# Altium schematic symbol library kmilo17pet-TI_MSP430.SchLib: 1463 symbols (part 19 of 130)
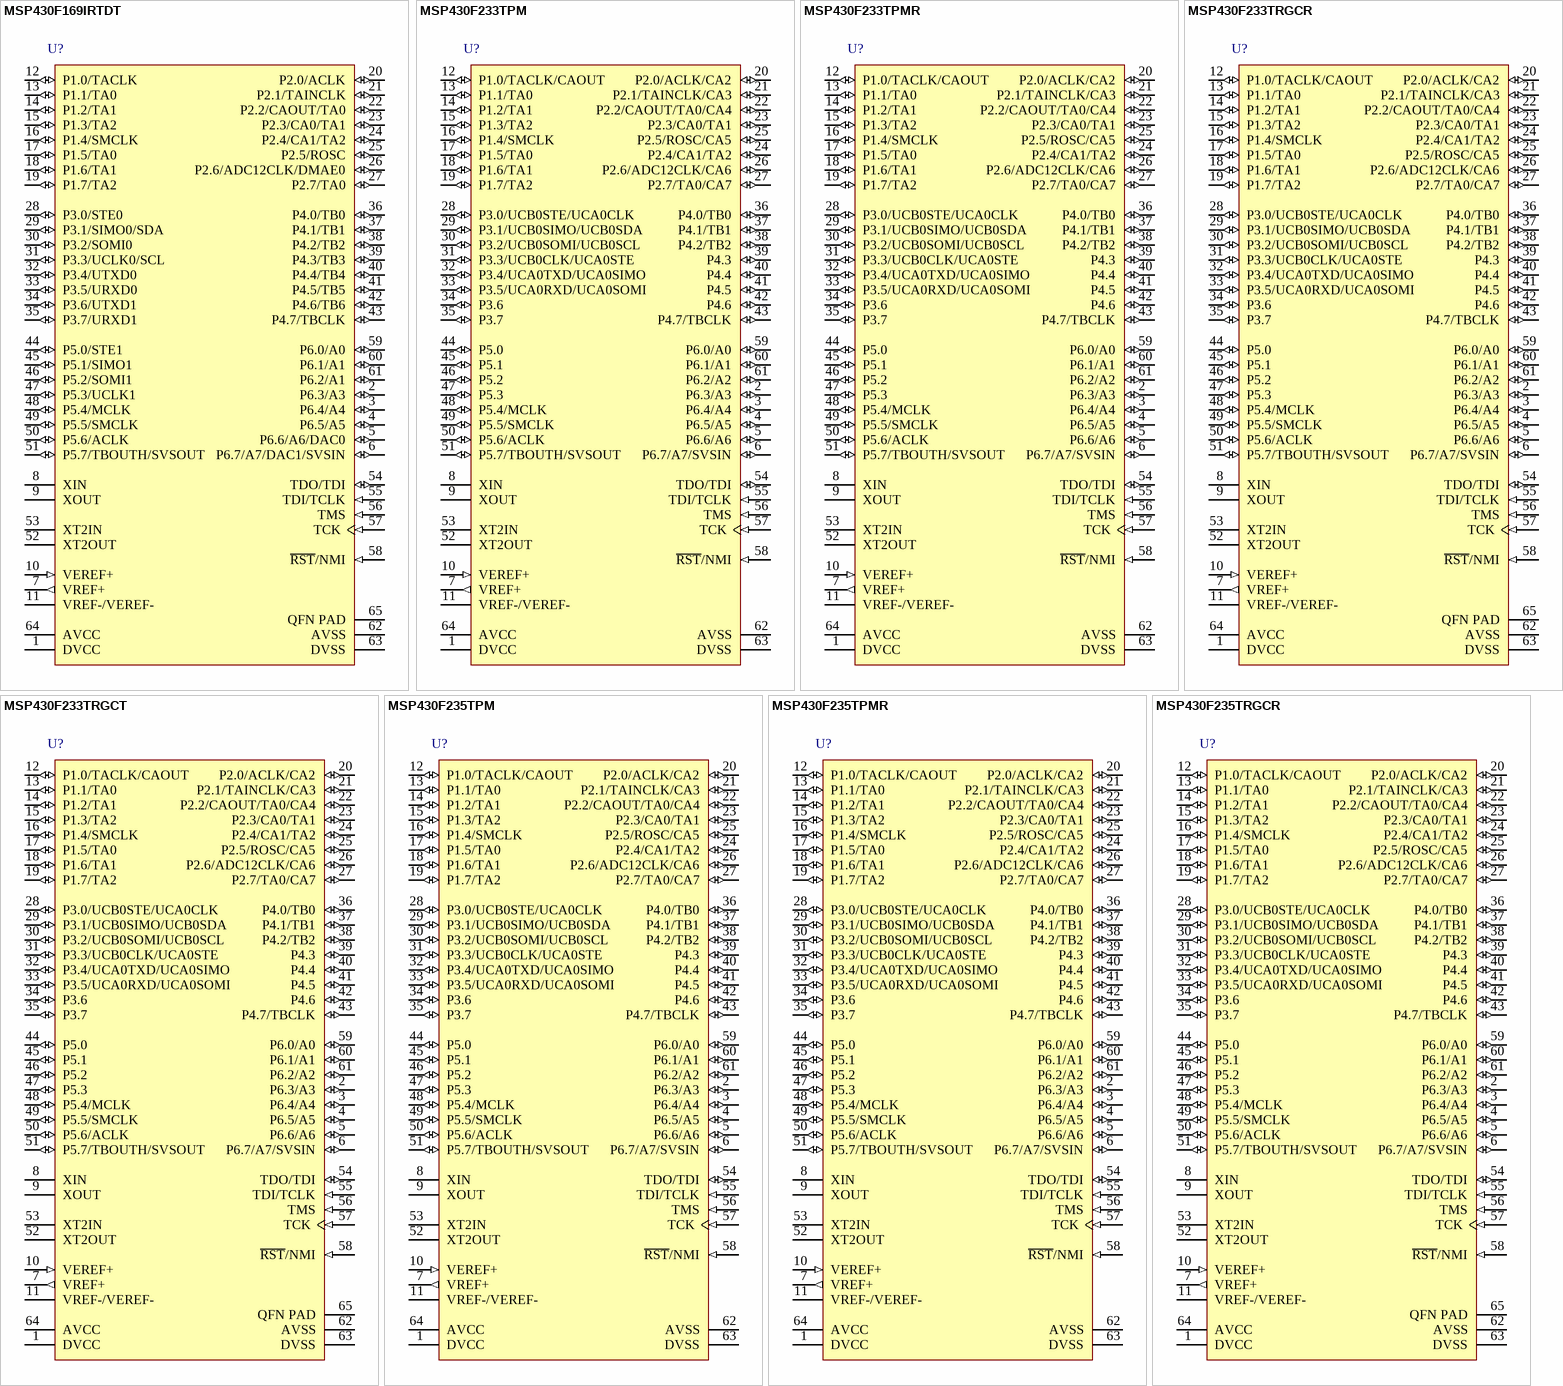
[diagram p246: symbols MSP430F169IRTDT to MSP430F235TRGCR]

## MSP430F235TPMR
designator U?
16 MHz Mixed Signal Microcontroller with 16 KB Flash, 2048 B SRAM and 48 GPIOs, -40 to 105 degC, 64-pin QFP (PM), Green (RoHS & no Sb/Br); Manufacturer: Texas Instruments; PartNumber: MSP430F235TPMR; ADC: 12-bit SAR; ADC Channels: 8; Brown Out Reset: Yes; Flash(KB): 16; GPIO: 48; Multiplier: 16x16; SRAM(B): 2048; SubFamily: 2 Series, Extended Temp; Timers - 16-bit: 2; USCI_A (UART/LIN/IrDA/SPI): 1; DatasheetVersion: SLAS547H; PackageVersion: 4040152/C; PackageReference: PM64; PackageDescription: 64-Pin Plastic Quad Flat Pack, Body 10 x 10 mm, Pitch 0.5 mm; Supplier 1: Digi-Key; Supplier Part Number 1: 296-26213-ND; Supplier 2: Farnell; Supplier Part Number 2: 1649432; Supplier 3: Newark; Supplier Part Number 3: 65M1698; Supplier 4: Mouser; Supplier Part Number 4: 595-MSP430F235TPM; Comparators: Yes; Eco-Plan: Green (RoHS & no Sb/Br); Frequency(MHz): 16; SVS: Yes; Temp Sensor: Yes; USCI_B (I2C & SPI): 1; Watchdog: Yes; Mounting Technology: Surface Mount; Code_JEDEC: MS-026; ComponentLink1Description: Manufacturer URL; ComponentLink1URL: http://www.ti.com/; ComponentLink2Description: Datasheet; ComponentLink2URL: http://www.ti.com/general/docs/lit/getliterature.tsp?genericPartNumber=MSP430F235&fileType=pdf; ComponentLink3Description: Package Specification; ComponentLink3URL: http://www.ti.com/lit/ml/mtqf008a/mtqf008a.pdf
footprint TI-PM64_N (QFP, 64-Leads, Body 10x10mm, Pitch 0.5mm, IPC Medium Density)
pins: 1 DVCC (power) "Digital supply voltage, positive terminal. Supplies all digital parts.", 2 P6.3/A3 (io), 3 P6.4/A4 (io), 4 P6.5/A5 (io), 5 P6.6/A6 (io), 6 P6.7/A7/SVSIN (io), 7 VREF+ (out) "Output of positive terminal of the reference voltage in the ADC12", 8 XIN "Input port for crystal oscillator XT1. Standard or watch crystals can be connected.", 9 XOUT "Output for crystal oscillator XT1. Standard or watch crystals can be connected", 10 VEREF+ (in) "Input for an external reference voltage", 11 VREF-/VEREF-, 12 P1.0/TACLK/CAOUT (io), 13 P1.1/TA0 (io), 14 P1.2/TA1 (io), 15 P1.3/TA2 (io), 16 P1.4/SMCLK (io), 17 P1.5/TA0 (io), 18 P1.6/TA1 (io), 19 P1.7/TA2 (io), 20 P2.0/ACLK/CA2 (io), 21 P2.1/TAINCLK/CA3 (io), 22 P2.2/CAOUT/TA0/CA4 (io), 23 P2.3/CA0/TA1 (io), 24 P2.4/CA1/TA2 (io), 25 P2.5/ROSC/CA5 (io), 26 P2.6/ADC12CLK/CA6 (io), 27 P2.7/TA0/CA7 (io), 28 P3.0/UCB0STE/UCA0CLK (io), 29 P3.1/UCB0SIMO/UCB0SDA (io), 30 P3.2/UCB0SOMI/UCB0SCL (io), 31 P3.3/UCB0CLK/UCA0STE (io), 32 P3.4/UCA0TXD/UCA0SIMO (io), 33 P3.5/UCA0RXD/UCA0SOMI (io), 34 P3.6 (io) "General-purpose digital I/O", 35 P3.7 (io) "General-purpose digital I/O", 36 P4.0/TB0 (io), 37 P4.1/TB1 (io), 38 P4.2/TB2 (io), 39 P4.3 (io) "General-purpose digital I/O", 40 P4.4 (io) "General-purpose digital I/O", 41 P4.5 (io) "General-purpose digital I/O", 42 P4.6 (io) "General-purpose digital I/O", 43 P4.7/TBCLK (io), 44 P5.0 (io) "General-purpose digital I/O", 45 P5.1 (io) "General-purpose digital I/O", 46 P5.2 (io) "General-purpose digital I/O", 47 P5.3 (io) "General-purpose digital I/O", 48 P5.4/MCLK (io), 49 P5.5/SMCLK (io), 50 P5.6/ACLK (io), 51 P5.7/TBOUTH/SVSOUT (io), 52 XT2OUT "Output terminal of crystal oscillator XT2", 53 XT2IN "Input port for crystal oscillator XT2", 54 TDO/TDI (io), 55 TDI/TCLK (in), 56 TMS (in) "Test mode select. TMS is used as an input port for device programming and test.", 57 TCK (in) "Test clock (JTAG). TCK is the clock input port for device programming test and bootstrap loader start.", 58 ~{RST}/NMI (in), 59 P6.0/A0 (io), 60 P6.1/A1 (io), 61 P6.2/A2 (io), 62 AVSS (power) "Analog supply voltage, negative terminal. Supplies only the analog portion of ADC12 and DAC12.", 63 DVSS (power) "Digital supply voltage, negative terminal. Supplies all digital parts.", 64 AVCC (power) "Analog supply voltage, positive terminal. Supplies only the analog portion of ADC12 and DAC12."

## MSP430F235TRGCR
designator U?
16 MHz Mixed Signal Microcontroller with 16 KB Flash, 2048 B SRAM and 48 GPIOs, -40 to 105 degC, 64-pin QFN (RGC), Green (RoHS & no Sb/Br); Manufacturer: Texas Instruments; PartNumber: MSP430F235TRGCR; ADC: 12-bit SAR; ADC Channels: 8; Brown Out Reset: Yes; Flash(KB): 16; GPIO: 48; Multiplier: 16x16; SRAM(B): 2048; SubFamily: 2 Series, Extended Temp; Timers - 16-bit: 2; USCI_A (UART/LIN/IrDA/SPI): 1; DatasheetVersion: SLAS547H; PackageVersion: 4204106/F; PackageReference: RGC64; PackageDescription: 64-Pin Plastic Flat Pack, Body 9 x 9 mm, Pitch 0.5 mm; Supplier 1: Digi-Key; Supplier Part Number 1: 296-22879-2-ND; Supplier 2: Digi-Key; Supplier Part Number 2: 296-22879-1-ND; Supplier 3: Digi-Key; Supplier Part Number 3: 296-22879-6-ND; Supplier 4: Farnell; Supplier Part Number 4: 1846603; Supplier 5: Newark; Supplier Part Number 5: 65M1699; Supplier 6: Mouser; Supplier Part Number 6: 595-MSP430F235TPMR; Comparators: Yes; Eco-Plan: Green (RoHS & no Sb/Br); Frequency(MHz): 16; SVS: Yes; Temp Sensor: Yes; USCI_B (I2C & SPI): 1; Watchdog: Yes; Mounting Technology: Surface Mount; ComponentLink1Description: Manufacturer URL; ComponentLink1URL: http://www.ti.com/; ComponentLink2Description: Datasheet; ComponentLink2URL: http://www.ti.com/general/docs/lit/getliterature.tsp?genericPartNumber=MSP430F235&fileType=pdf; ComponentLink3Description: Package Specification; ComponentLink3URL: http://www.ti.com/lit/ds/symlink/ucd3138.pdf
footprint TI-RGC64-4250X4250TP_N (QFN, 64-Leads, Body 9x9mm, Pitch 0.5mm, Thermal Pad 4.25x4.25mm, IPC Medium Density)
pins: 1 DVCC (power) "Digital supply voltage, positive. Supplies all digital parts.", 2 P6.3/A3 (io), 3 P6.4/A4 (io), 4 P6.5/A5 (io), 5 P6.6/A6 (io), 6 P6.7/A7/SVSIN (io), 7 VREF+ (out) "Output of positive terminal of the reference voltage in the ADC12", 8 XIN "Input port for crystal oscillator XT1. Standard or watch crystals can be connected.", 9 XOUT "Output for crystal oscillator XT1. Standard or watch crystals can be connected.", 10 VEREF+ (in) "Input for an external reference voltage", 11 VREF-/VEREF-, 12 P1.0/TACLK/CAOUT (io), 13 P1.1/TA0 (io), 14 P1.2/TA1 (io), 15 P1.3/TA2 (io), 16 P1.4/SMCLK (io), 17 P1.5/TA0 (io), 18 P1.6/TA1 (io), 19 P1.7/TA2 (io), 20 P2.0/ACLK/CA2 (io), 21 P2.1/TAINCLK/CA3 (io), 22 P2.2/CAOUT/TA0/CA4 (io), 23 P2.3/CA0/TA1 (io), 24 P2.4/CA1/TA2 (io), 25 P2.5/ROSC/CA5 (io), 26 P2.6/ADC12CLK/CA6 (io), 27 P2.7/TA0/CA7 (io), 28 P3.0/UCB0STE/UCA0CLK (io), 29 P3.1/UCB0SIMO/UCB0SDA (io), 30 P3.2/UCB0SOMI/UCB0SCL (io), 31 P3.3/UCB0CLK/UCA0STE (io), 32 P3.4/UCA0TXD/UCA0SIMO (io), 33 P3.5/UCA0RXD/UCA0SOMI (io), 34 P3.6 (io) "General-purpose digital I/O", 35 P3.7 (io) "General-purpose digital I/O", 36 P4.0/TB0 (io), 37 P4.1/TB1 (io), 38 P4.2/TB2 (io), 39 P4.3 (io) "General-purpose digital I/O", 40 P4.4 (io) "General-purpose digital I/O", 41 P4.5 (io) "General-purpose digital I/O", 42 P4.6 (io) "General-purpose digital I/O", 43 P4.7/TBCLK (io), 44 P5.0 (io) "General-purpose digital I/O", 45 P5.1 (io) "General-purpose digital I/O", 46 P5.2 (io) "General-purpose digital I/O", 47 P5.3 (io) "General-purpose digital I/O", 48 P5.4/MCLK (io), 49 P5.5/SMCLK (io), 50 P5.6/ACLK (io), 51 P5.7/TBOUTH/SVSOUT (io), 52 XT2OUT "Output terminal of crystal oscillator XT2", 53 XT2IN "Input port for crystal oscillator XT2", 54 TDO/TDI (io), 55 TDI/TCLK (in), 56 TMS (in) "Test mode select. TMS is used as an input port for device programming and test.", 57 TCK (in) "Test clock (JTAG). TCK is the clock input port for device programming test and bootstrap loader start.", 58 ~{RST}/NMI (in), 59 P6.0/A0 (io), 60 P6.1/A1 (io), 61 P6.2/A2 (io), 62 AVSS (power) "Analog supply voltage, negative. Supplies only the analog portion of ADC12.", 63 DVSS (power) "Digital supply voltage, negative. Supplies all digital parts.", 64 AVCC (power) "Analog supply voltage, positive. Supplies only the analog portion of ADC12.", 65 QFN PAD (power) "QFN package pad connection to DVSS recommended"

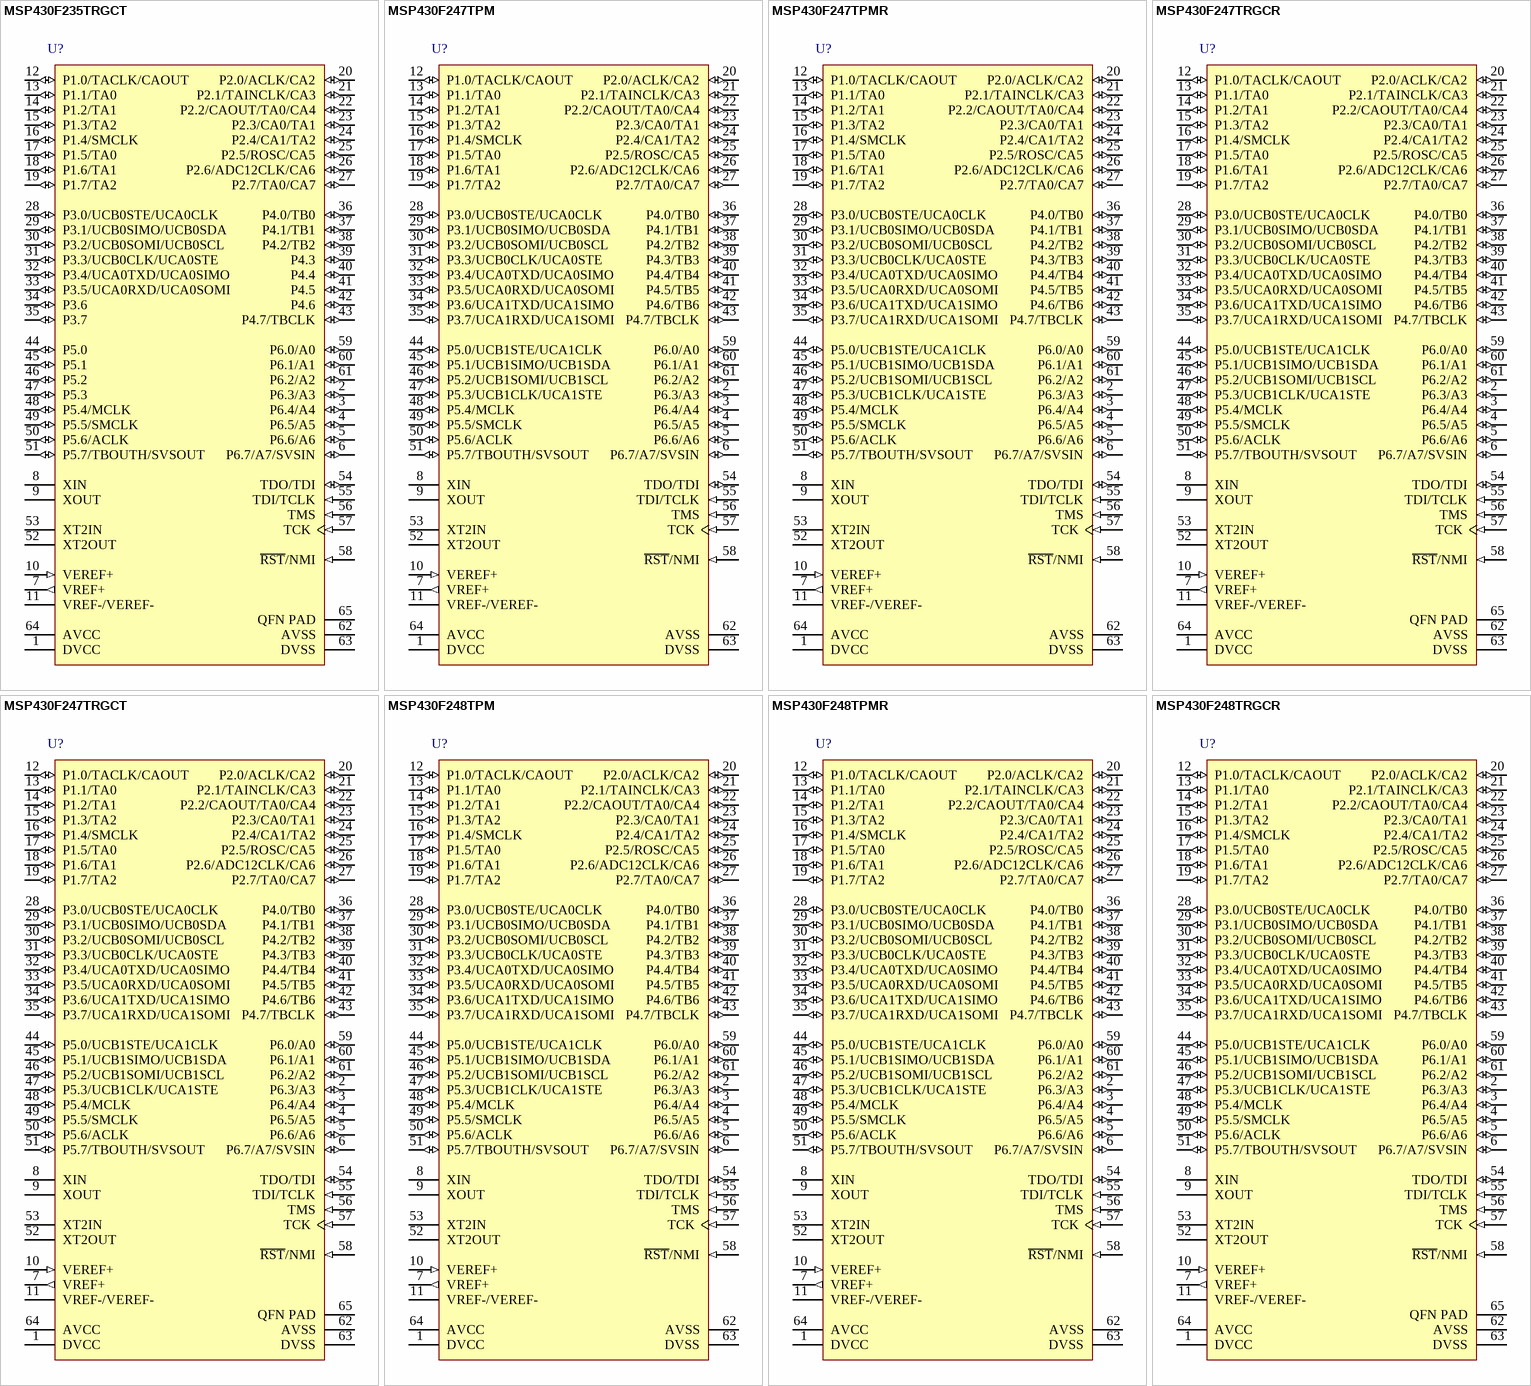
[diagram p29: symbols MSP430F235TRGCT to MSP430F248TRGCR]

## MSP430F235TRGCT
designator U?
16 MHz Mixed Signal Microcontroller with 16 KB Flash, 2048 B SRAM and 48 GPIOs, -40 to 105 degC, 64-pin QFN (RGC), Green (RoHS & no Sb/Br); Manufacturer: Texas Instruments; PartNumber: MSP430F235TRGCT; ADC: 12-bit SAR; ADC Channels: 8; Brown Out Reset: Yes; Flash(KB): 16; GPIO: 48; Multiplier: 16x16; SRAM(B): 2048; SubFamily: 2 Series, Extended Temp; Timers - 16-bit: 2; USCI_A (UART/LIN/IrDA/SPI): 1; DatasheetVersion: SLAS547H; PackageVersion: 4204106/F; PackageReference: RGC64; PackageDescription: 64-Pin Plastic Flat Pack, Body 9 x 9 mm, Pitch 0.5 mm; Supplier 1: Digi-Key; Supplier Part Number 1: 296-22928-2-ND; Supplier 2: Digi-Key; Supplier Part Number 2: 296-22928-1-ND; Supplier 3: Digi-Key; Supplier Part Number 3: 296-22928-6-ND; Supplier 4: Farnell; Supplier Part Number 4: 1903431; Supplier 5: Newark; Supplier Part Number 5: 84M9633; Supplier 6: Mouser; Supplier Part Number 6: 595-MSP430F235TRGCR; Comparators: Yes; Eco-Plan: Green (RoHS & no Sb/Br); Frequency(MHz): 16; SVS: Yes; Temp Sensor: Yes; USCI_B (I2C & SPI): 1; Watchdog: Yes; Mounting Technology: Surface Mount; ComponentLink1Description: Manufacturer URL; ComponentLink1URL: http://www.ti.com/; ComponentLink2Description: Datasheet; ComponentLink2URL: http://www.ti.com/general/docs/lit/getliterature.tsp?genericPartNumber=MSP430F235&fileType=pdf; ComponentLink3Description: Package Specification; ComponentLink3URL: http://www.ti.com/lit/ds/symlink/ucd3138.pdf
footprint TI-RGC64-4250X4250TP_N (QFN, 64-Leads, Body 9x9mm, Pitch 0.5mm, Thermal Pad 4.25x4.25mm, IPC Medium Density)
pins: 1 DVCC (power) "Digital supply voltage, positive. Supplies all digital parts.", 2 P6.3/A3 (io), 3 P6.4/A4 (io), 4 P6.5/A5 (io), 5 P6.6/A6 (io), 6 P6.7/A7/SVSIN (io), 7 VREF+ (out) "Output of positive terminal of the reference voltage in the ADC12", 8 XIN "Input port for crystal oscillator XT1. Standard or watch crystals can be connected.", 9 XOUT "Output for crystal oscillator XT1. Standard or watch crystals can be connected.", 10 VEREF+ (in) "Input for an external reference voltage", 11 VREF-/VEREF-, 12 P1.0/TACLK/CAOUT (io), 13 P1.1/TA0 (io), 14 P1.2/TA1 (io), 15 P1.3/TA2 (io), 16 P1.4/SMCLK (io), 17 P1.5/TA0 (io), 18 P1.6/TA1 (io), 19 P1.7/TA2 (io), 20 P2.0/ACLK/CA2 (io), 21 P2.1/TAINCLK/CA3 (io), 22 P2.2/CAOUT/TA0/CA4 (io), 23 P2.3/CA0/TA1 (io), 24 P2.4/CA1/TA2 (io), 25 P2.5/ROSC/CA5 (io), 26 P2.6/ADC12CLK/CA6 (io), 27 P2.7/TA0/CA7 (io), 28 P3.0/UCB0STE/UCA0CLK (io), 29 P3.1/UCB0SIMO/UCB0SDA (io), 30 P3.2/UCB0SOMI/UCB0SCL (io), 31 P3.3/UCB0CLK/UCA0STE (io), 32 P3.4/UCA0TXD/UCA0SIMO (io), 33 P3.5/UCA0RXD/UCA0SOMI (io), 34 P3.6 (io) "General-purpose digital I/O", 35 P3.7 (io) "General-purpose digital I/O", 36 P4.0/TB0 (io), 37 P4.1/TB1 (io), 38 P4.2/TB2 (io), 39 P4.3 (io) "General-purpose digital I/O", 40 P4.4 (io) "General-purpose digital I/O", 41 P4.5 (io) "General-purpose digital I/O", 42 P4.6 (io) "General-purpose digital I/O", 43 P4.7/TBCLK (io), 44 P5.0 (io) "General-purpose digital I/O", 45 P5.1 (io) "General-purpose digital I/O", 46 P5.2 (io) "General-purpose digital I/O", 47 P5.3 (io) "General-purpose digital I/O", 48 P5.4/MCLK (io), 49 P5.5/SMCLK (io), 50 P5.6/ACLK (io), 51 P5.7/TBOUTH/SVSOUT (io), 52 XT2OUT "Output terminal of crystal oscillator XT2", 53 XT2IN "Input port for crystal oscillator XT2", 54 TDO/TDI (io), 55 TDI/TCLK (in), 56 TMS (in) "Test mode select. TMS is used as an input port for device programming and test.", 57 TCK (in) "Test clock (JTAG). TCK is the clock input port for device programming test and bootstrap loader start.", 58 ~{RST}/NMI (in), 59 P6.0/A0 (io), 60 P6.1/A1 (io), 61 P6.2/A2 (io), 62 AVSS (power) "Analog supply voltage, negative. Supplies only the analog portion of ADC12.", 63 DVSS (power) "Digital supply voltage, negative. Supplies all digital parts.", 64 AVCC (power) "Analog supply voltage, positive. Supplies only the analog portion of ADC12.", 65 QFN PAD (power) "QFN package pad connection to DVSS recommended"

## MSP430F247TPM
designator U?
16 MHz Mixed Signal Microcontroller with 32 KB Flash, 4096 B SRAM and 48 GPIOs, -40 to 105 degC, 64-pin QFP (PM), Green (RoHS & no Sb/Br); Manufacturer: Texas Instruments; PartNumber: MSP430F247TPM; ADC: 12-bit SAR; ADC Channels: 8; Brown Out Reset: Yes; Flash(KB): 32; Frequency(MHz): 16; GPIO: 48; Multiplier: 16x16; SRAM(B): 4096; SubFamily: 2 Series; Timers - 16-bit: 2; DatasheetVersion: SLAS547H; PackageVersion: 4040152/C; PackageReference: PM64; PackageDescription: 64-Pin Plastic Quad Flat Pack, Body 10 x 10 mm, Pitch 0.5 mm; Supplier 1: Digi-Key; Supplier Part Number 1: 296-31686-2-ND; Supplier 2: Digi-Key; Supplier Part Number 2: 296-31686-1-ND; Supplier 3: Digi-Key; Supplier Part Number 3: 296-31686-6-ND; Supplier 4: Mouser; Supplier Part Number 4: 595-MSP430F2471TRGCT; Comparators: Yes; Eco-Plan: Green (RoHS & no Sb/Br); SVS: Yes; Temp Sensor: Yes; USCI_A (UART/LIN/IrDA/SPI): 2; USCI_B (I2C & SPI): 2; Watchdog: Yes; Mounting Technology: Surface Mount; Code_JEDEC: MS-026; ComponentLink1Description: Manufacturer URL; ComponentLink1URL: http://www.ti.com/; ComponentLink2Description: Datasheet; ComponentLink2URL: http://www.ti.com/general/docs/lit/getliterature.tsp?genericPartNumber=MSP430F247&fileType=pdf; ComponentLink3Description: Package Specification; ComponentLink3URL: http://www.ti.com/lit/ml/mtqf008a/mtqf008a.pdf
footprint TI-PM64_N (QFP, 64-Leads, Body 10x10mm, Pitch 0.5mm, IPC Medium Density)
pins: 1 DVCC (power) "Digital supply voltage, positive terminal. Supplies all digital parts.", 2 P6.3/A3 (io), 3 P6.4/A4 (io), 4 P6.5/A5 (io), 5 P6.6/A6 (io), 6 P6.7/A7/SVSIN (io), 7 VREF+ (out) "Output of positive terminal of the reference voltage in the ADC12", 8 XIN "Input port for crystal oscillator XT1. Standard or watch crystals can be connected.", 9 XOUT "Output port for crystal oscillator XT1. Standard or watch crystals can be connected.", 10 VEREF+ (in) "Input for an external reference voltage", 11 VREF-/VEREF-, 12 P1.0/TACLK/CAOUT (io), 13 P1.1/TA0 (io), 14 P1.2/TA1 (io), 15 P1.3/TA2 (io), 16 P1.4/SMCLK (io), 17 P1.5/TA0 (io), 18 P1.6/TA1 (io), 19 P1.7/TA2 (io), 20 P2.0/ACLK/CA2 (io), 21 P2.1/TAINCLK/CA3 (io), 22 P2.2/CAOUT/TA0/CA4 (io), 23 P2.3/CA0/TA1 (io), 24 P2.4/CA1/TA2 (io), 25 P2.5/ROSC/CA5 (io), 26 P2.6/ADC12CLK/CA6 (io), 27 P2.7/TA0/CA7 (io), 28 P3.0/UCB0STE/UCA0CLK (io), 29 P3.1/UCB0SIMO/UCB0SDA (io), 30 P3.2/UCB0SOMI/UCB0SCL (io), 31 P3.3/UCB0CLK/UCA0STE (io), 32 P3.4/UCA0TXD/UCA0SIMO (io), 33 P3.5/UCA0RXD/UCA0SOMI (io), 34 P3.6/UCA1TXD/UCA1SIMO (io), 35 P3.7/UCA1RXD/UCA1SOMI (io), 36 P4.0/TB0 (io), 37 P4.1/TB1 (io), 38 P4.2/TB2 (io), 39 P4.3/TB3 (io), 40 P4.4/TB4 (io), 41 P4.5/TB5 (io), 42 P4.6/TB6 (io), 43 P4.7/TBCLK (io), 44 P5.0/UCB1STE/UCA1CLK (io), 45 P5.1/UCB1SIMO/UCB1SDA (io), 46 P5.2/UCB1SOMI/UCB1SCL (io), 47 P5.3/UCB1CLK/UCA1STE (io), 48 P5.4/MCLK (io), 49 P5.5/SMCLK (io), 50 P5.6/ACLK (io), 51 P5.7/TBOUTH/SVSOUT (io), 52 XT2OUT "Output terminal of crystal oscillator XT2", 53 XT2IN "Input port for crystal oscillator XT2", 54 TDO/TDI (io), 55 TDI/TCLK (in), 56 TMS (in) "Test mode select. TMS is used as an input port for device programming and test.", 57 TCK (in) "Test clock (JTAG). TCK is the clock input port for device programming test and bootstrap loader start", 58 ~{RST}/NMI (in), 59 P6.0/A0 (io), 60 P6.1/A1 (io), 61 P6.2/A2 (io), 62 AVSS (power) "Analog supply voltage, negative terminal. Supplies only the analog portion of ADC12 and DAC12.", 63 DVSS (power) "Digital supply voltage, negative terminal. Supplies all digital parts.", 64 AVCC (power) "Analog supply voltage, positive terminal. Supplies only the analog portion of ADC12 and DAC12."

## MSP430F247TPMR
designator U?
16 MHz Mixed Signal Microcontroller with 32 KB Flash, 4096 B SRAM and 48 GPIOs, -40 to 105 degC, 64-pin QFP (PM), Green (RoHS & no Sb/Br); Manufacturer: Texas Instruments; PartNumber: MSP430F247TPMR; ADC: 12-bit SAR; ADC Channels: 8; Brown Out Reset: Yes; Flash(KB): 32; Frequency(MHz): 16; GPIO: 48; Multiplier: 16x16; SRAM(B): 4096; SubFamily: 2 Series; Timers - 16-bit: 2; DatasheetVersion: SLAS547H; PackageVersion: 4040152/C; PackageReference: PM64; PackageDescription: 64-Pin Plastic Quad Flat Pack, Body 10 x 10 mm, Pitch 0.5 mm; Supplier 1: Digi-Key; Supplier Part Number 1: 296-26219-ND; Supplier 2: Farnell; Supplier Part Number 2: 1649443; Supplier 3: Newark; Supplier Part Number 3: 65M1705; Supplier 4: Mouser; Supplier Part Number 4: 595-MSP430F247TPM; Comparators: Yes; Eco-Plan: Green (RoHS & no Sb/Br); SVS: Yes; Temp Sensor: Yes; USCI_A (UART/LIN/IrDA/SPI): 2; USCI_B (I2C & SPI): 2; Watchdog: Yes; Mounting Technology: Surface Mount; Code_JEDEC: MS-026; ComponentLink1Description: Manufacturer URL; ComponentLink1URL: http://www.ti.com/; ComponentLink2Description: Datasheet; ComponentLink2URL: http://www.ti.com/general/docs/lit/getliterature.tsp?genericPartNumber=MSP430F247&fileType=pdf; ComponentLink3Description: Package Specification; ComponentLink3URL: http://www.ti.com/lit/ml/mtqf008a/mtqf008a.pdf
footprint TI-PM64_N (QFP, 64-Leads, Body 10x10mm, Pitch 0.5mm, IPC Medium Density)
pins: 1 DVCC (power) "Digital supply voltage, positive terminal. Supplies all digital parts.", 2 P6.3/A3 (io), 3 P6.4/A4 (io), 4 P6.5/A5 (io), 5 P6.6/A6 (io), 6 P6.7/A7/SVSIN (io), 7 VREF+ (out) "Output of positive terminal of the reference voltage in the ADC12", 8 XIN "Input port for crystal oscillator XT1. Standard or watch crystals can be connected.", 9 XOUT "Output port for crystal oscillator XT1. Standard or watch crystals can be connected.", 10 VEREF+ (in) "Input for an external reference voltage", 11 VREF-/VEREF-, 12 P1.0/TACLK/CAOUT (io), 13 P1.1/TA0 (io), 14 P1.2/TA1 (io), 15 P1.3/TA2 (io), 16 P1.4/SMCLK (io), 17 P1.5/TA0 (io), 18 P1.6/TA1 (io), 19 P1.7/TA2 (io), 20 P2.0/ACLK/CA2 (io), 21 P2.1/TAINCLK/CA3 (io), 22 P2.2/CAOUT/TA0/CA4 (io), 23 P2.3/CA0/TA1 (io), 24 P2.4/CA1/TA2 (io), 25 P2.5/ROSC/CA5 (io), 26 P2.6/ADC12CLK/CA6 (io), 27 P2.7/TA0/CA7 (io), 28 P3.0/UCB0STE/UCA0CLK (io), 29 P3.1/UCB0SIMO/UCB0SDA (io), 30 P3.2/UCB0SOMI/UCB0SCL (io), 31 P3.3/UCB0CLK/UCA0STE (io), 32 P3.4/UCA0TXD/UCA0SIMO (io), 33 P3.5/UCA0RXD/UCA0SOMI (io), 34 P3.6/UCA1TXD/UCA1SIMO (io), 35 P3.7/UCA1RXD/UCA1SOMI (io), 36 P4.0/TB0 (io), 37 P4.1/TB1 (io), 38 P4.2/TB2 (io), 39 P4.3/TB3 (io), 40 P4.4/TB4 (io), 41 P4.5/TB5 (io), 42 P4.6/TB6 (io), 43 P4.7/TBCLK (io), 44 P5.0/UCB1STE/UCA1CLK (io), 45 P5.1/UCB1SIMO/UCB1SDA (io), 46 P5.2/UCB1SOMI/UCB1SCL (io), 47 P5.3/UCB1CLK/UCA1STE (io), 48 P5.4/MCLK (io), 49 P5.5/SMCLK (io), 50 P5.6/ACLK (io), 51 P5.7/TBOUTH/SVSOUT (io), 52 XT2OUT "Output terminal of crystal oscillator XT2", 53 XT2IN "Input port for crystal oscillator XT2", 54 TDO/TDI (io), 55 TDI/TCLK (in), 56 TMS (in) "Test mode select. TMS is used as an input port for device programming and test.", 57 TCK (in) "Test clock (JTAG). TCK is the clock input port for device programming test and bootstrap loader start", 58 ~{RST}/NMI (in), 59 P6.0/A0 (io), 60 P6.1/A1 (io), 61 P6.2/A2 (io), 62 AVSS (power) "Analog supply voltage, negative terminal. Supplies only the analog portion of ADC12 and DAC12.", 63 DVSS (power) "Digital supply voltage, negative terminal. Supplies all digital parts.", 64 AVCC (power) "Analog supply voltage, positive terminal. Supplies only the analog portion of ADC12 and DAC12."

## MSP430F247TRGCR
designator U?
16 MHz Mixed Signal Microcontroller with 32 KB Flash, 4096 B SRAM and 48 GPIOs, -40 to 105 degC, 64-pin QFN (RGC), Green (RoHS & no Sb/Br); Manufacturer: Texas Instruments; PartNumber: MSP430F247TRGCR; ADC: 12-bit SAR; ADC Channels: 8; Brown Out Reset: Yes; Flash(KB): 32; Frequency(MHz): 16; GPIO: 48; Multiplier: 16x16; SRAM(B): 4096; SubFamily: 2 Series; Timers - 16-bit: 2; DatasheetVersion: SLAS547H; PackageVersion: 4204106/F; PackageReference: RGC64; PackageDescription: 64-Pin Plastic Flat Pack, Body 9 x 9 mm, Pitch 0.5 mm; Supplier 1: Digi-Key; Supplier Part Number 1: 296-22878-2-ND; Supplier 2: Digi-Key; Supplier Part Number 2: 296-22878-1-ND; Supplier 3: Digi-Key; Supplier Part Number 3: 296-22878-6-ND; Supplier 4: Newark; Supplier Part Number 4: 65M1706; Supplier 5: Mouser; Supplier Part Number 5: 595-MSP430F247TPMR; Comparators: Yes; Eco-Plan: Green (RoHS & no Sb/Br); SVS: Yes; Temp Sensor: Yes; USCI_A (UART/LIN/IrDA/SPI): 2; USCI_B (I2C & SPI): 2; Watchdog: Yes; Mounting Technology: Surface Mount; ComponentLink1Description: Manufacturer URL; ComponentLink1URL: http://www.ti.com/; ComponentLink2Description: Datasheet; ComponentLink2URL: http://www.ti.com/general/docs/lit/getliterature.tsp?genericPartNumber=MSP430F247&fileType=pdf; ComponentLink3Description: Package Specification; ComponentLink3URL: http://www.ti.com/lit/ds/symlink/ucd3138.pdf
footprint TI-RGC64-4250X4250TP_N (QFN, 64-Leads, Body 9x9mm, Pitch 0.5mm, Thermal Pad 4.25x4.25mm, IPC Medium Density)
pins: 1 DVCC (power) "Digital supply voltage, positive terminal. Supplies all digital parts.", 2 P6.3/A3 (io), 3 P6.4/A4 (io), 4 P6.5/A5 (io), 5 P6.6/A6 (io), 6 P6.7/A7/SVSIN (io), 7 VREF+ (out) "Positive output of the reference voltage in the ADC12", 8 XIN "Input for crystal oscillator XT1. Standard or watch crystals can be connected.", 9 XOUT "Output for crystal oscillator XT1. Standard or watch crystals can be connected.", 10 VEREF+ (in) "Input for an external reference voltage", 11 VREF-/VEREF-, 12 P1.0/TACLK/CAOUT (io), 13 P1.1/TA0 (io), 14 P1.2/TA1 (io), 15 P1.3/TA2 (io), 16 P1.4/SMCLK (io), 17 P1.5/TA0 (io), 18 P1.6/TA1 (io), 19 P1.7/TA2 (io), 20 P2.0/ACLK/CA2 (io), 21 P2.1/TAINCLK/CA3 (io), 22 P2.2/CAOUT/TA0/CA4 (io), 23 P2.3/CA0/TA1 (io), 24 P2.4/CA1/TA2 (io), 25 P2.5/ROSC/CA5 (io), 26 P2.6/ADC12CLK/CA6 (io), 27 P2.7/TA0/CA7 (io), 28 P3.0/UCB0STE/UCA0CLK (io), 29 P3.1/UCB0SIMO/UCB0SDA (io), 30 P3.2/UCB0SOMI/UCB0SCL (io), 31 P3.3/UCB0CLK/UCA0STE (io), 32 P3.4/UCA0TXD/UCA0SIMO (io), 33 P3.5/UCA0RXD/UCA0SOMI (io), 34 P3.6/UCA1TXD/UCA1SIMO (io), 35 P3.7/UCA1RXD/UCA1SOMI (io), 36 P4.0/TB0 (io), 37 P4.1/TB1 (io), 38 P4.2/TB2 (io), 39 P4.3/TB3 (io), 40 P4.4/TB4 (io), 41 P4.5/TB5 (io), 42 P4.6/TB6 (io), 43 P4.7/TBCLK (io), 44 P5.0/UCB1STE/UCA1CLK (io), 45 P5.1/UCB1SIMO/UCB1SDA (io), 46 P5.2/UCB1SOMI/UCB1SCL (io), 47 P5.3/UCB1CLK/UCA1STE (io), 48 P5.4/MCLK (io), 49 P5.5/SMCLK (io), 50 P5.6/ACLK (io), 51 P5.7/TBOUTH/SVSOUT (io), 52 XT2OUT "Output of crystal oscillator XT2", 53 XT2IN "Input for crystal oscillator XT2", 54 TDO/TDI (io), 55 TDI/TCLK (in), 56 TMS (in) "Test mode select. TMS is used as an input port for device programming and test.", 57 TCK (in) "Test clock (JTAG). TCK is the clock input port for device programming test and bootstrap loader start.", 58 ~{RST}/NMI (in), 59 P6.0/A0 (io), 60 P6.1/A1 (io), 61 P6.2/A2 (io), 62 AVSS (power) "Analog supply voltage, negative terminal. Supplies only the analog portion of ADC12.", 63 DVSS (power) "Digital supply voltage, negative terminal. Supplies all digital parts.", 64 AVCC (power) "Analog supply voltage, positive terminal. Supplies only the analog portion of ADC12.", 65 QFN PAD (power) "QFN package pad connection to DVSS recommended (RGC package only)"

## MSP430F247TRGCT
designator U?
16 MHz Mixed Signal Microcontroller with 32 KB Flash, 4096 B SRAM and 48 GPIOs, -40 to 105 degC, 64-pin QFN (RGC), Green (RoHS & no Sb/Br); Manufacturer: Texas Instruments; PartNumber: MSP430F247TRGCT; ADC: 12-bit SAR; ADC Channels: 8; Brown Out Reset: Yes; Flash(KB): 32; Frequency(MHz): 16; GPIO: 48; Multiplier: 16x16; SRAM(B): 4096; SubFamily: 2 Series; Timers - 16-bit: 2; DatasheetVersion: SLAS547H; PackageVersion: 4204106/F; PackageReference: RGC64; PackageDescription: 64-Pin Plastic Flat Pack, Body 9 x 9 mm, Pitch 0.5 mm; Supplier 1: Digi-Key; Supplier Part Number 1: 296-23081-2-ND; Supplier 2: Digi-Key; Supplier Part Number 2: 296-23081-1-ND; Supplier 3: Digi-Key; Supplier Part Number 3: 296-23081-6-ND; Supplier 4: Farnell; Supplier Part Number 4: 1903437; Supplier 5: Newark; Supplier Part Number 5: 65M1707; Supplier 6: Mouser; Supplier Part Number 6: 595-MSP430F247TRGCR; Comparators: Yes; Eco-Plan: Green (RoHS & no Sb/Br); SVS: Yes; Temp Sensor: Yes; USCI_A (UART/LIN/IrDA/SPI): 2; USCI_B (I2C & SPI): 2; Watchdog: Yes; Mounting Technology: Surface Mount; ComponentLink1Description: Manufacturer URL; ComponentLink1URL: http://www.ti.com/; ComponentLink2Description: Datasheet; ComponentLink2URL: http://www.ti.com/general/docs/lit/getliterature.tsp?genericPartNumber=MSP430F247&fileType=pdf; ComponentLink3Description: Package Specification; ComponentLink3URL: http://www.ti.com/lit/ds/symlink/ucd3138.pdf
footprint TI-RGC64-4250X4250TP_N (QFN, 64-Leads, Body 9x9mm, Pitch 0.5mm, Thermal Pad 4.25x4.25mm, IPC Medium Density)
pins: 1 DVCC (power) "Digital supply voltage, positive terminal. Supplies all digital parts.", 2 P6.3/A3 (io), 3 P6.4/A4 (io), 4 P6.5/A5 (io), 5 P6.6/A6 (io), 6 P6.7/A7/SVSIN (io), 7 VREF+ (out) "Positive output of the reference voltage in the ADC12", 8 XIN "Input for crystal oscillator XT1. Standard or watch crystals can be connected.", 9 XOUT "Output for crystal oscillator XT1. Standard or watch crystals can be connected.", 10 VEREF+ (in) "Input for an external reference voltage", 11 VREF-/VEREF-, 12 P1.0/TACLK/CAOUT (io), 13 P1.1/TA0 (io), 14 P1.2/TA1 (io), 15 P1.3/TA2 (io), 16 P1.4/SMCLK (io), 17 P1.5/TA0 (io), 18 P1.6/TA1 (io), 19 P1.7/TA2 (io), 20 P2.0/ACLK/CA2 (io), 21 P2.1/TAINCLK/CA3 (io), 22 P2.2/CAOUT/TA0/CA4 (io), 23 P2.3/CA0/TA1 (io), 24 P2.4/CA1/TA2 (io), 25 P2.5/ROSC/CA5 (io), 26 P2.6/ADC12CLK/CA6 (io), 27 P2.7/TA0/CA7 (io), 28 P3.0/UCB0STE/UCA0CLK (io), 29 P3.1/UCB0SIMO/UCB0SDA (io), 30 P3.2/UCB0SOMI/UCB0SCL (io), 31 P3.3/UCB0CLK/UCA0STE (io), 32 P3.4/UCA0TXD/UCA0SIMO (io), 33 P3.5/UCA0RXD/UCA0SOMI (io), 34 P3.6/UCA1TXD/UCA1SIMO (io), 35 P3.7/UCA1RXD/UCA1SOMI (io), 36 P4.0/TB0 (io), 37 P4.1/TB1 (io), 38 P4.2/TB2 (io), 39 P4.3/TB3 (io), 40 P4.4/TB4 (io), 41 P4.5/TB5 (io), 42 P4.6/TB6 (io), 43 P4.7/TBCLK (io), 44 P5.0/UCB1STE/UCA1CLK (io), 45 P5.1/UCB1SIMO/UCB1SDA (io), 46 P5.2/UCB1SOMI/UCB1SCL (io), 47 P5.3/UCB1CLK/UCA1STE (io), 48 P5.4/MCLK (io), 49 P5.5/SMCLK (io), 50 P5.6/ACLK (io), 51 P5.7/TBOUTH/SVSOUT (io), 52 XT2OUT "Output of crystal oscillator XT2", 53 XT2IN "Input for crystal oscillator XT2", 54 TDO/TDI (io), 55 TDI/TCLK (in), 56 TMS (in) "Test mode select. TMS is used as an input port for device programming and test.", 57 TCK (in) "Test clock (JTAG). TCK is the clock input port for device programming test and bootstrap loader start.", 58 ~{RST}/NMI (in), 59 P6.0/A0 (io), 60 P6.1/A1 (io), 61 P6.2/A2 (io), 62 AVSS (power) "Analog supply voltage, negative terminal. Supplies only the analog portion of ADC12.", 63 DVSS (power) "Digital supply voltage, negative terminal. Supplies all digital parts.", 64 AVCC (power) "Analog supply voltage, positive terminal. Supplies only the analog portion of ADC12.", 65 QFN PAD (power) "QFN package pad connection to DVSS recommended (RGC package only)"

## MSP430F248TPM
designator U?
16 MHz Mixed Signal Microcontroller with 48 KB Flash, 4096 B SRAM and 48 GPIOs, -40 to 105 degC, 64-pin QFP (PM), Green (RoHS & no Sb/Br); Manufacturer: Texas Instruments; PartNumber: MSP430F248TPM; ADC: 12-bit SAR; ADC Channels: 8; Brown Out Reset: Yes; Flash(KB): 48; Frequency(MHz): 16; Multiplier: 16x16; SRAM(B): 4096; SubFamily: 2 Series, Extended Temp; Timers - 16-bit: 2; DatasheetVersion: SLAS547H; PackageVersion: 4040152/C; PackageReference: PM64; PackageDescription: 64-Pin Plastic Quad Flat Pack, Body 10 x 10 mm, Pitch 0.5 mm; Supplier 1: Digi-Key; Supplier Part Number 1: 296-31687-2-ND; Supplier 2: Digi-Key; Supplier Part Number 2: 296-31687-1-ND; Supplier 3: Digi-Key; Supplier Part Number 3: 296-31687-6-ND; Supplier 4: Farnell; Supplier Part Number 4: 1753309; Supplier 5: Newark; Supplier Part Number 5: 93R5564; Supplier 6: Mouser; Supplier Part Number 6: 595-MSP430F2481TRGCT; Comparators: Yes; Eco-Plan: Green (RoHS & no Sb/Br); GPIO: 48; SVS: Yes; Temp Sensor: Yes; USCI_A (UART/LIN/IrDA/SPI): 2; USCI_B (I2C & SPI): 2; Watchdog: Yes; Mounting Technology: Surface Mount; Code_JEDEC: MS-026; ComponentLink1Description: Manufacturer URL; ComponentLink1URL: http://www.ti.com/; ComponentLink2Description: Datasheet; ComponentLink2URL: http://www.ti.com/general/docs/lit/getliterature.tsp?genericPartNumber=MSP430F248&fileType=pdf; ComponentLink3Description: Package Specification; ComponentLink3URL: http://www.ti.com/lit/ml/mtqf008a/mtqf008a.pdf
footprint TI-PM64_N (QFP, 64-Leads, Body 10x10mm, Pitch 0.5mm, IPC Medium Density)
pins: 1 DVCC (power) "Digital supply voltage, positive terminal. Supplies all digital parts.", 2 P6.3/A3 (io), 3 P6.4/A4 (io), 4 P6.5/A5 (io), 5 P6.6/A6 (io), 6 P6.7/A7/SVSIN (io), 7 VREF+ (out) "Output of positive terminal of the reference voltage in the ADC12", 8 XIN "Input port for crystal oscillator XT1. Standard or watch crystals can be connected.", 9 XOUT "Output for crystal oscillator XT1. Standard or watch crystals can be connected.", 10 VEREF+ (in) "Input for an external reference voltage", 11 VREF-/VEREF-, 12 P1.0/TACLK/CAOUT (io), 13 P1.1/TA0 (io), 14 P1.2/TA1 (io), 15 P1.3/TA2 (io), 16 P1.4/SMCLK (io), 17 P1.5/TA0 (io), 18 P1.6/TA1 (io), 19 P1.7/TA2 (io), 20 P2.0/ACLK/CA2 (io), 21 P2.1/TAINCLK/CA3 (io), 22 P2.2/CAOUT/TA0/CA4 (io), 23 P2.3/CA0/TA1 (io), 24 P2.4/CA1/TA2 (io), 25 P2.5/ROSC/CA5 (io), 26 P2.6/ADC12CLK/CA6 (io), 27 P2.7/TA0/CA7 (io), 28 P3.0/UCB0STE/UCA0CLK (io), 29 P3.1/UCB0SIMO/UCB0SDA (io), 30 P3.2/UCB0SOMI/UCB0SCL (io), 31 P3.3/UCB0CLK/UCA0STE (io), 32 P3.4/UCA0TXD/UCA0SIMO (io), 33 P3.5/UCA0RXD/UCA0SOMI (io), 34 P3.6/UCA1TXD/UCA1SIMO (io), 35 P3.7/UCA1RXD/UCA1SOMI (io), 36 P4.0/TB0 (io), 37 P4.1/TB1 (io), 38 P4.2/TB2 (io), 39 P4.3/TB3 (io), 40 P4.4/TB4 (io), 41 P4.5/TB5 (io), 42 P4.6/TB6 (io), 43 P4.7/TBCLK (io), 44 P5.0/UCB1STE/UCA1CLK (io), 45 P5.1/UCB1SIMO/UCB1SDA (io), 46 P5.2/UCB1SOMI/UCB1SCL (io), 47 P5.3/UCB1CLK/UCA1STE (io), 48 P5.4/MCLK (io), 49 P5.5/SMCLK (io), 50 P5.6/ACLK (io), 51 P5.7/TBOUTH/SVSOUT (io), 52 XT2OUT "Output terminal of crystal oscillator XT2", 53 XT2IN "Input port for crystal oscillator XT2. Only standard crystals can be connected.", 54 TDO/TDI (io), 55 TDI/TCLK (in), 56 TMS (in) "Test mode select. TMS is used as an input port for device programming and test.", 57 TCK (in) "Test clock (JTAG). TCK is the clock input port for device programming test and bootstrap loader start.", 58 ~{RST}/NMI (in), 59 P6.0/A0 (io), 60 P6.1/A1 (io), 61 P6.2/A2 (io), 62 AVSS (power) "Analog supply voltage, negative terminal. Supplies only the analog portion of ADC12 and DAC12.", 63 DVSS (power) "Digital supply voltage, negative terminal. Supplies all digital parts.", 64 AVCC (power) "Analog supply voltage, positive terminal. Supplies only the analog portion of ADC12 and DAC12."

## MSP430F248TPMR
designator U?
16 MHz Mixed Signal Microcontroller with 48 KB Flash, 4096 B SRAM and 48 GPIOs, -40 to 105 degC, 64-pin QFP (PM), Green (RoHS & no Sb/Br); Manufacturer: Texas Instruments; PartNumber: MSP430F248TPMR; ADC: 12-bit SAR; ADC Channels: 8; Brown Out Reset: Yes; Flash(KB): 48; Frequency(MHz): 16; Multiplier: 16x16; SRAM(B): 4096; SubFamily: 2 Series, Extended Temp; Timers - 16-bit: 2; DatasheetVersion: SLAS547H; PackageVersion: 4040152/C; PackageReference: PM64; PackageDescription: 64-Pin Plastic Quad Flat Pack, Body 10 x 10 mm, Pitch 0.5 mm; Supplier 1: Digi-Key; Supplier Part Number 1: 296-26221-ND; Supplier 2: Farnell; Supplier Part Number 2: 1649445; Supplier 3: Newark; Supplier Part Number 3: 65M1713; Supplier 4: Mouser; Supplier Part Number 4: 595-MSP430F248TPM; Comparators: Yes; Eco-Plan: Green (RoHS & no Sb/Br); GPIO: 48; SVS: Yes; Temp Sensor: Yes; USCI_A (UART/LIN/IrDA/SPI): 2; USCI_B (I2C & SPI): 2; Watchdog: Yes; Mounting Technology: Surface Mount; Code_JEDEC: MS-026; ComponentLink1Description: Manufacturer URL; ComponentLink1URL: http://www.ti.com/; ComponentLink2Description: Datasheet; ComponentLink2URL: http://www.ti.com/general/docs/lit/getliterature.tsp?genericPartNumber=MSP430F248&fileType=pdf; ComponentLink3Description: Package Specification; ComponentLink3URL: http://www.ti.com/lit/ml/mtqf008a/mtqf008a.pdf
footprint TI-PM64_N (QFP, 64-Leads, Body 10x10mm, Pitch 0.5mm, IPC Medium Density)
pins: 1 DVCC (power) "Digital supply voltage, positive terminal. Supplies all digital parts.", 2 P6.3/A3 (io), 3 P6.4/A4 (io), 4 P6.5/A5 (io), 5 P6.6/A6 (io), 6 P6.7/A7/SVSIN (io), 7 VREF+ (out) "Output of positive terminal of the reference voltage in the ADC12", 8 XIN "Input port for crystal oscillator XT1. Standard or watch crystals can be connected.", 9 XOUT "Output for crystal oscillator XT1. Standard or watch crystals can be connected.", 10 VEREF+ (in) "Input for an external reference voltage", 11 VREF-/VEREF-, 12 P1.0/TACLK/CAOUT (io), 13 P1.1/TA0 (io), 14 P1.2/TA1 (io), 15 P1.3/TA2 (io), 16 P1.4/SMCLK (io), 17 P1.5/TA0 (io), 18 P1.6/TA1 (io), 19 P1.7/TA2 (io), 20 P2.0/ACLK/CA2 (io), 21 P2.1/TAINCLK/CA3 (io), 22 P2.2/CAOUT/TA0/CA4 (io), 23 P2.3/CA0/TA1 (io), 24 P2.4/CA1/TA2 (io), 25 P2.5/ROSC/CA5 (io), 26 P2.6/ADC12CLK/CA6 (io), 27 P2.7/TA0/CA7 (io), 28 P3.0/UCB0STE/UCA0CLK (io), 29 P3.1/UCB0SIMO/UCB0SDA (io), 30 P3.2/UCB0SOMI/UCB0SCL (io), 31 P3.3/UCB0CLK/UCA0STE (io), 32 P3.4/UCA0TXD/UCA0SIMO (io), 33 P3.5/UCA0RXD/UCA0SOMI (io), 34 P3.6/UCA1TXD/UCA1SIMO (io), 35 P3.7/UCA1RXD/UCA1SOMI (io), 36 P4.0/TB0 (io), 37 P4.1/TB1 (io), 38 P4.2/TB2 (io), 39 P4.3/TB3 (io), 40 P4.4/TB4 (io), 41 P4.5/TB5 (io), 42 P4.6/TB6 (io), 43 P4.7/TBCLK (io), 44 P5.0/UCB1STE/UCA1CLK (io), 45 P5.1/UCB1SIMO/UCB1SDA (io), 46 P5.2/UCB1SOMI/UCB1SCL (io), 47 P5.3/UCB1CLK/UCA1STE (io), 48 P5.4/MCLK (io), 49 P5.5/SMCLK (io), 50 P5.6/ACLK (io), 51 P5.7/TBOUTH/SVSOUT (io), 52 XT2OUT "Output terminal of crystal oscillator XT2", 53 XT2IN "Input port for crystal oscillator XT2. Only standard crystals can be connected.", 54 TDO/TDI (io), 55 TDI/TCLK (in), 56 TMS (in) "Test mode select. TMS is used as an input port for device programming and test.", 57 TCK (in) "Test clock (JTAG). TCK is the clock input port for device programming test and bootstrap loader start.", 58 ~{RST}/NMI (in), 59 P6.0/A0 (io), 60 P6.1/A1 (io), 61 P6.2/A2 (io), 62 AVSS (power) "Analog supply voltage, negative terminal. Supplies only the analog portion of ADC12 and DAC12.", 63 DVSS (power) "Digital supply voltage, negative terminal. Supplies all digital parts.", 64 AVCC (power) "Analog supply voltage, positive terminal. Supplies only the analog portion of ADC12 and DAC12."

## MSP430F248TRGCR
designator U?
16 MHz Mixed Signal Microcontroller with 48 KB Flash, 4096 B SRAM and 48 GPIOs, -40 to 105 degC, 64-pin QFN (RGC), Green (RoHS & no Sb/Br); Manufacturer: Texas Instruments; PartNumber: MSP430F248TRGCR; ADC: 12-bit SAR; ADC Channels: 8; Brown Out Reset: Yes; Flash(KB): 48; Frequency(MHz): 16; Multiplier: 16x16; SRAM(B): 4096; SubFamily: 2 Series, Extended Temp; Timers - 16-bit: 2; DatasheetVersion: SLAS547H; PackageVersion: 4204106/F; PackageReference: RGC64; PackageDescription: 64-Pin Plastic Flat Pack, Body 9 x 9 mm, Pitch 0.5 mm; Supplier 1: Digi-Key; Supplier Part Number 1: 296-22893-2-ND; Supplier 2: Digi-Key; Supplier Part Number 2: 296-22893-1-ND; Supplier 3: Digi-Key; Supplier Part Number 3: 296-22893-6-ND; Supplier 4: Newark; Supplier Part Number 4: 65M1714; Supplier 5: Mouser; Supplier Part Number 5: 595-MSP430F248TPMR; Comparators: Yes; Eco-Plan: Green (RoHS & no Sb/Br); GPIO: 48; SVS: Yes; Temp Sensor: Yes; USCI_A (UART/LIN/IrDA/SPI): 2; USCI_B (I2C & SPI): 2; Watchdog: Yes; Mounting Technology: Surface Mount; ComponentLink1Description: Manufacturer URL; ComponentLink1URL: http://www.ti.com/; ComponentLink2Description: Datasheet; ComponentLink2URL: http://www.ti.com/general/docs/lit/getliterature.tsp?genericPartNumber=MSP430F248&fileType=pdf; ComponentLink3Description: Package Specification; ComponentLink3URL: http://www.ti.com/lit/ds/symlink/ucd3138.pdf
footprint TI-RGC64-4250X4250TP_N (QFN, 64-Leads, Body 9x9mm, Pitch 0.5mm, Thermal Pad 4.25x4.25mm, IPC Medium Density)
pins: 1 DVCC (power) "Digital supply voltage, positive terminal. Supplies all digital parts.", 2 P6.3/A3 (io), 3 P6.4/A4 (io), 4 P6.5/A5 (io), 5 P6.6/A6 (io), 6 P6.7/A7/SVSIN (io), 7 VREF+ (out) "Positive output of the reference voltage in the ADC12", 8 XIN "Input for crystal oscillator XT1. Standard or watch crystals can be connected.", 9 XOUT "Output for crystal oscillator XT1. Standard or watch crystals can be connected.", 10 VEREF+ (in) "Input for an external reference voltage", 11 VREF-/VEREF-, 12 P1.0/TACLK/CAOUT (io), 13 P1.1/TA0 (io), 14 P1.2/TA1 (io), 15 P1.3/TA2 (io), 16 P1.4/SMCLK (io), 17 P1.5/TA0 (io), 18 P1.6/TA1 (io), 19 P1.7/TA2 (io), 20 P2.0/ACLK/CA2 (io), 21 P2.1/TAINCLK/CA3 (io), 22 P2.2/CAOUT/TA0/CA4 (io), 23 P2.3/CA0/TA1 (io), 24 P2.4/CA1/TA2 (io), 25 P2.5/ROSC/CA5 (io), 26 P2.6/ADC12CLK/CA6 (io), 27 P2.7/TA0/CA7 (io), 28 P3.0/UCB0STE/UCA0CLK (io), 29 P3.1/UCB0SIMO/UCB0SDA (io), 30 P3.2/UCB0SOMI/UCB0SCL (io), 31 P3.3/UCB0CLK/UCA0STE (io), 32 P3.4/UCA0TXD/UCA0SIMO (io), 33 P3.5/UCA0RXD/UCA0SOMI (io), 34 P3.6/UCA1TXD/UCA1SIMO (io), 35 P3.7/UCA1RXD/UCA1SOMI (io), 36 P4.0/TB0 (io), 37 P4.1/TB1 (io), 38 P4.2/TB2 (io), 39 P4.3/TB3 (io), 40 P4.4/TB4 (io), 41 P4.5/TB5 (io), 42 P4.6/TB6 (io), 43 P4.7/TBCLK (io), 44 P5.0/UCB1STE/UCA1CLK (io), 45 P5.1/UCB1SIMO/UCB1SDA (io), 46 P5.2/UCB1SOMI/UCB1SCL (io), 47 P5.3/UCB1CLK/UCA1STE (io), 48 P5.4/MCLK (io), 49 P5.5/SMCLK (io), 50 P5.6/ACLK (io), 51 P5.7/TBOUTH/SVSOUT (io), 52 XT2OUT "Output of crystal oscillator XT2", 53 XT2IN "Input for crystal oscillator XT2", 54 TDO/TDI (io), 55 TDI/TCLK (in), 56 TMS (in) "Test mode select. TMS is used as an input port for device programming and test.", 57 TCK (in) "Test clock (JTAG). TCK is the clock input port for device programming test and bootstrap loader start.", 58 ~{RST}/NMI (in), 59 P6.0/A0 (io), 60 P6.1/A1 (io), 61 P6.2/A2 (io), 62 AVSS (power) "Analog supply voltage, negative terminal. Supplies only the analog portion of ADC12.", 63 DVSS (power) "Digital supply voltage, negative terminal. Supplies all digital parts.", 64 AVCC (power) "Analog supply voltage, positive terminal. Supplies only the analog portion of ADC12.", 65 QFN PAD (power) "QFN package pad connection to DVSS recommended (RGC package only)"

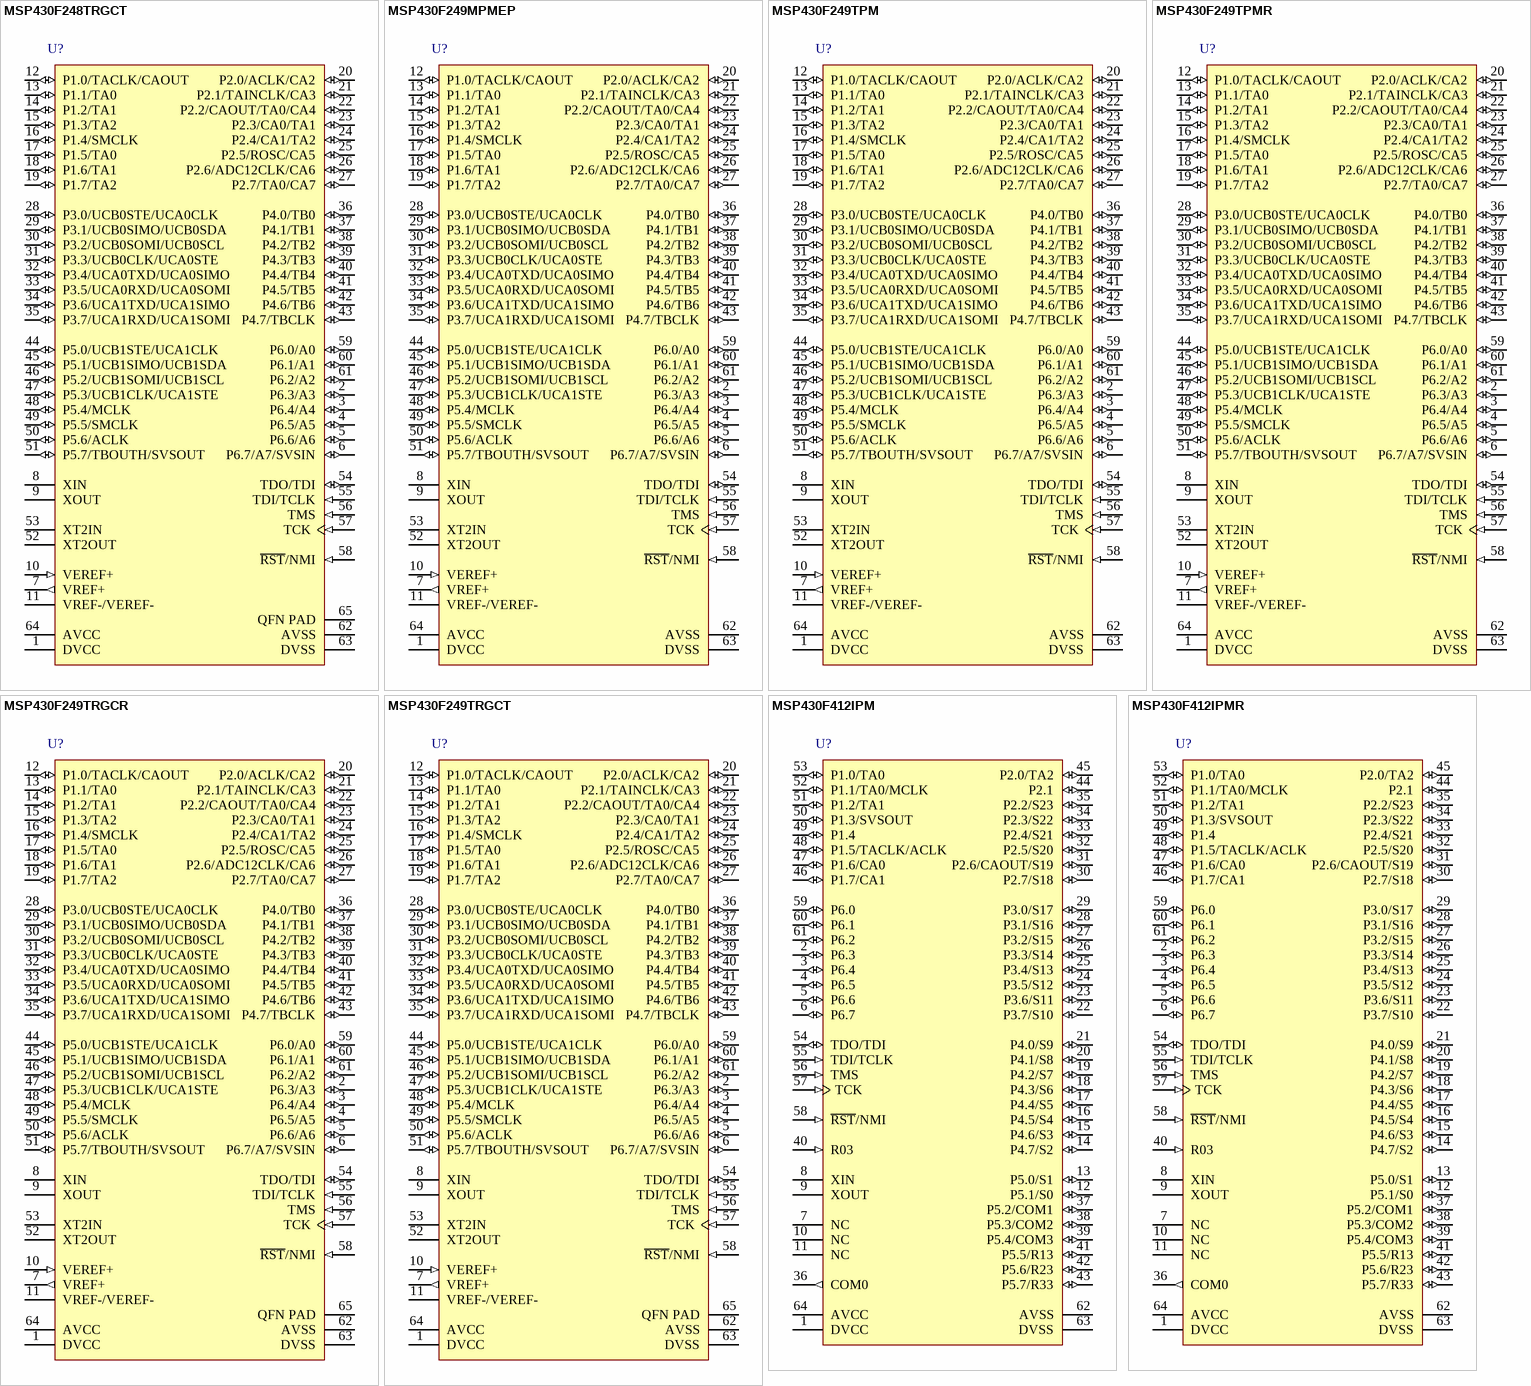
[diagram p30: symbols MSP430F248TRGCT to MSP430F412IPMR]

## MSP430F248TRGCT
designator U?
16 MHz Mixed Signal Microcontroller with 48 KB Flash, 4096 B SRAM and 48 GPIOs, -40 to 105 degC, 64-pin QFN (RGC), Green (RoHS & no Sb/Br); Manufacturer: Texas Instruments; PartNumber: MSP430F248TRGCT; ADC: 12-bit SAR; ADC Channels: 8; Brown Out Reset: Yes; Flash(KB): 48; Frequency(MHz): 16; Multiplier: 16x16; SRAM(B): 4096; SubFamily: 2 Series, Extended Temp; Timers - 16-bit: 2; DatasheetVersion: SLAS547H; PackageVersion: 4204106/F; PackageReference: RGC64; PackageDescription: 64-Pin Plastic Flat Pack, Body 9 x 9 mm, Pitch 0.5 mm; Supplier 1: Digi-Key; Supplier Part Number 1: 296-22894-2-ND; Supplier 2: Digi-Key; Supplier Part Number 2: 296-22894-1-ND; Supplier 3: Digi-Key; Supplier Part Number 3: 296-22894-6-ND; Supplier 4: Newark; Supplier Part Number 4: 65M1715; Supplier 5: Mouser; Supplier Part Number 5: 595-MSP430F248TRGCR; Comparators: Yes; Eco-Plan: Green (RoHS & no Sb/Br); GPIO: 48; SVS: Yes; Temp Sensor: Yes; USCI_A (UART/LIN/IrDA/SPI): 2; USCI_B (I2C & SPI): 2; Watchdog: Yes; Mounting Technology: Surface Mount; ComponentLink1Description: Manufacturer URL; ComponentLink1URL: http://www.ti.com/; ComponentLink2Description: Datasheet; ComponentLink2URL: http://www.ti.com/general/docs/lit/getliterature.tsp?genericPartNumber=MSP430F248&fileType=pdf; ComponentLink3Description: Package Specification; ComponentLink3URL: http://www.ti.com/lit/ds/symlink/ucd3138.pdf
footprint TI-RGC64-4250X4250TP_N (QFN, 64-Leads, Body 9x9mm, Pitch 0.5mm, Thermal Pad 4.25x4.25mm, IPC Medium Density)
pins: 1 DVCC (power) "Digital supply voltage, positive terminal. Supplies all digital parts.", 2 P6.3/A3 (io), 3 P6.4/A4 (io), 4 P6.5/A5 (io), 5 P6.6/A6 (io), 6 P6.7/A7/SVSIN (io), 7 VREF+ (out) "Positive output of the reference voltage in the ADC12", 8 XIN "Input for crystal oscillator XT1. Standard or watch crystals can be connected.", 9 XOUT "Output for crystal oscillator XT1. Standard or watch crystals can be connected.", 10 VEREF+ (in) "Input for an external reference voltage", 11 VREF-/VEREF-, 12 P1.0/TACLK/CAOUT (io), 13 P1.1/TA0 (io), 14 P1.2/TA1 (io), 15 P1.3/TA2 (io), 16 P1.4/SMCLK (io), 17 P1.5/TA0 (io), 18 P1.6/TA1 (io), 19 P1.7/TA2 (io), 20 P2.0/ACLK/CA2 (io), 21 P2.1/TAINCLK/CA3 (io), 22 P2.2/CAOUT/TA0/CA4 (io), 23 P2.3/CA0/TA1 (io), 24 P2.4/CA1/TA2 (io), 25 P2.5/ROSC/CA5 (io), 26 P2.6/ADC12CLK/CA6 (io), 27 P2.7/TA0/CA7 (io), 28 P3.0/UCB0STE/UCA0CLK (io), 29 P3.1/UCB0SIMO/UCB0SDA (io), 30 P3.2/UCB0SOMI/UCB0SCL (io), 31 P3.3/UCB0CLK/UCA0STE (io), 32 P3.4/UCA0TXD/UCA0SIMO (io), 33 P3.5/UCA0RXD/UCA0SOMI (io), 34 P3.6/UCA1TXD/UCA1SIMO (io), 35 P3.7/UCA1RXD/UCA1SOMI (io), 36 P4.0/TB0 (io), 37 P4.1/TB1 (io), 38 P4.2/TB2 (io), 39 P4.3/TB3 (io), 40 P4.4/TB4 (io), 41 P4.5/TB5 (io), 42 P4.6/TB6 (io), 43 P4.7/TBCLK (io), 44 P5.0/UCB1STE/UCA1CLK (io), 45 P5.1/UCB1SIMO/UCB1SDA (io), 46 P5.2/UCB1SOMI/UCB1SCL (io), 47 P5.3/UCB1CLK/UCA1STE (io), 48 P5.4/MCLK (io), 49 P5.5/SMCLK (io), 50 P5.6/ACLK (io), 51 P5.7/TBOUTH/SVSOUT (io), 52 XT2OUT "Output of crystal oscillator XT2", 53 XT2IN "Input for crystal oscillator XT2", 54 TDO/TDI (io), 55 TDI/TCLK (in), 56 TMS (in) "Test mode select. TMS is used as an input port for device programming and test.", 57 TCK (in) "Test clock (JTAG). TCK is the clock input port for device programming test and bootstrap loader start.", 58 ~{RST}/NMI (in), 59 P6.0/A0 (io), 60 P6.1/A1 (io), 61 P6.2/A2 (io), 62 AVSS (power) "Analog supply voltage, negative terminal. Supplies only the analog portion of ADC12.", 63 DVSS (power) "Digital supply voltage, negative terminal. Supplies all digital parts.", 64 AVCC (power) "Analog supply voltage, positive terminal. Supplies only the analog portion of ADC12.", 65 QFN PAD (power) "QFN package pad connection to DVSS recommended (RGC package only)"

## MSP430F249MPMEP
designator U?
16 MHz Mixed Signal Microcontroller with 60 KB Flash, 2048 B SRAM and 48 GPIOs, -40 to 105 degC, 64-pin QFP (PM), Green (RoHS & no Sb/Br); Manufacturer: Texas Instruments; PartNumber: MSP430F249MPMEP; ADC: 12-bit SAR; ADC Channels: 8; Brown Out Reset: Yes; Flash(KB): 60; Frequency(MHz): 16; GPIO: 48; Multiplier: 16x16; SRAM(B): 2048; SubFamily: Extended Temp; Temp Sensor: Yesbit (3CCDR), 1 16-bit (7CCR), 1; Timers - 16-bit: 2; DatasheetVersion: SLAS584C; PackageVersion: 4040152/C; PackageReference: PM64; PackageDescription: 64-Pin Plastic Quad Flat Pack, Body 10 x 10 mm, Pitch 0.5 mm; Supplier 1: Digi-Key; Supplier Part Number 1: MSP430F2491TRGCT-ND; Supplier 2: Farnell; Supplier Part Number 2: 1649447; Supplier 3: Newark; Supplier Part Number 3: 65M1728; Supplier 4: Mouser; Supplier Part Number 4: 595-MSP430F2491TRGCT; Comparators: Yes; Eco-Plan: Green (RoHS & no Sb/Br); SVS: Yes; USCI_A (UART/LIN/IrDA/SPI): 2; USCI_B (I2C & SPI): 2; Watchdog: Yes; Mounting Technology: Surface Mount; Code_JEDEC: MS-026; ComponentLink1Description: Manufacturer URL; ComponentLink1URL: http://www.ti.com/; ComponentLink2Description: Datasheet; ComponentLink2URL: http://www.ti.com/general/docs/lit/getliterature.tsp?genericPartNumber=MSP430F249-EP&fileType=pdf; ComponentLink3Description: Package Specification; ComponentLink3URL: http://www.ti.com/lit/ml/mtqf008a/mtqf008a.pdf
footprint TI-PM64_N (QFP, 64-Leads, Body 10x10mm, Pitch 0.5mm, IPC Medium Density)
pins: 1 DVCC (power) "Digital supply voltage, positive terminal. Supplies all digital parts.", 2 P6.3/A3 (io), 3 P6.4/A4 (io), 4 P6.5/A5 (io), 5 P6.6/A6 (io), 6 P6.7/A7/SVSIN (io), 7 VREF+ (out) "Output of positive terminal of the reference voltage in the ADC12", 8 XIN "Input port for crystal oscillator XT1. Standard or watch crystals can be connected.", 9 XOUT "Output for crystal oscillator XT1. Standard or watch crystals can be connected.", 10 VEREF+ (in) "Input for an external reference voltage", 11 VREF-/VEREF-, 12 P1.0/TACLK/CAOUT (io), 13 P1.1/TA0 (io), 14 P1.2/TA1 (io), 15 P1.3/TA2 (io), 16 P1.4/SMCLK (io), 17 P1.5/TA0 (io), 18 P1.6/TA1 (io), 19 P1.7/TA2 (io), 20 P2.0/ACLK/CA2 (io), 21 P2.1/TAINCLK/CA3 (io), 22 P2.2/CAOUT/TA0/CA4 (io), 23 P2.3/CA0/TA1 (io), 24 P2.4/CA1/TA2 (io), 25 P2.5/ROSC/CA5 (io), 26 P2.6/ADC12CLK/CA6 (io), 27 P2.7/TA0/CA7 (io), 28 P3.0/UCB0STE/UCA0CLK (io), 29 P3.1/UCB0SIMO/UCB0SDA (io), 30 P3.2/UCB0SOMI/UCB0SCL (io), 31 P3.3/UCB0CLK/UCA0STE (io), 32 P3.4/UCA0TXD/UCA0SIMO (io), 33 P3.5/UCA0RXD/UCA0SOMI (io), 34 P3.6/UCA1TXD/UCA1SIMO (io), 35 P3.7/UCA1RXD/UCA1SOMI (io), 36 P4.0/TB0 (io), 37 P4.1/TB1 (io), 38 P4.2/TB2 (io), 39 P4.3/TB3 (io), 40 P4.4/TB4 (io), 41 P4.5/TB5 (io), 42 P4.6/TB6 (io), 43 P4.7/TBCLK (io), 44 P5.0/UCB1STE/UCA1CLK (io), 45 P5.1/UCB1SIMO/UCB1SDA (io), 46 P5.2/UCB1SOMI/UCB1SCL (io), 47 P5.3/UCB1CLK/UCA1STE (io), 48 P5.4/MCLK (io), 49 P5.5/SMCLK (io), 50 P5.6/ACLK (io), 51 P5.7/TBOUTH/SVSOUT (io), 52 XT2OUT "Output terminal of crystal oscillator XT2", 53 XT2IN "Input port for crystal oscillator XT2. Only standard crystals can be connected.", 54 TDO/TDI (io), 55 TDI/TCLK (in), 56 TMS (in) "Test mode select. TMS is used as an input port for device programming and test.", 57 TCK (in) "Test clock (JTAG). TCK is the clock input port for device programming test and bootstrap loader start.", 58 ~{RST}/NMI (in), 59 P6.0/A0 (io), 60 P6.1/A1 (io), 61 P6.2/A2 (io), 62 AVSS (power) "Analog supply voltage, negative terminal. Supplies only the analog portion of ADC12 and DAC12.", 63 DVSS (power) "Digital supply voltage, negative terminal. Supplies all digital parts.", 64 AVCC (power) "Analog supply voltage, positive terminal. Supplies only the analog portion of ADC12 and DAC12."

## MSP430F249TPM
designator U?
16 MHz Mixed Signal Microcontroller with 60 KB Flash, 2048 B SRAM and 48 GPIOs, -40 to 105 degC, 64-pin QFP (PM), Green (RoHS & no Sb/Br); Manufacturer: Texas Instruments; PartNumber: MSP430F249TPM; ADC: 12-bit SAR; ADC Channels: 8; Brown Out Reset: Yes; Flash(KB): 60; Frequency(MHz): 16; GPIO: 48; Multiplier: 16x16; SRAM(B): 2048; SubFamily: 2 Series, Extended Temp; Timers - 16-bit: 2; DatasheetVersion: SLAS547H; PackageVersion: 4040152/C; PackageReference: PM64; PackageDescription: 64-Pin Plastic Quad Flat Pack, Body 10 x 10 mm, Pitch 0.5 mm; Supplier 1: Digi-Key; Supplier Part Number 1: 296-23918-ND; Supplier 2: Newark; Supplier Part Number 2: 09R4958; Supplier 3: Mouser; Supplier Part Number 3: 595-MSP430F249MPMEP; Comparators: Yes; Eco-Plan: Green (RoHS & no Sb/Br); SVS: Yes; Temp Sensor: Yes; USCI_A (UART/LIN/IrDA/SPI): 2; USCI_B (I2C & SPI): 2; Watchdog: Yes; Mounting Technology: Surface Mount; Code_JEDEC: MS-026; ComponentLink1Description: Manufacturer URL; ComponentLink1URL: http://www.ti.com/; ComponentLink2Description: Datasheet; ComponentLink2URL: http://www.ti.com/general/docs/lit/getliterature.tsp?genericPartNumber=MSP430F249&fileType=pdf; ComponentLink3Description: Package Specification; ComponentLink3URL: http://www.ti.com/lit/ml/mtqf008a/mtqf008a.pdf
footprint TI-PM64_N (QFP, 64-Leads, Body 10x10mm, Pitch 0.5mm, IPC Medium Density)
pins: 1 DVCC (power) "Digital supply voltage, positive terminal. Supplies all digital parts.", 2 P6.3/A3 (io), 3 P6.4/A4 (io), 4 P6.5/A5 (io), 5 P6.6/A6 (io), 6 P6.7/A7/SVSIN (io), 7 VREF+ (out) "Output of positive terminal of the reference voltage in the ADC12", 8 XIN "Input port for crystal oscillator XT1. Standard or watch crystals can be connected.", 9 XOUT "Output port for crystal oscillator XT1. Standard or watch crystals can be connected.", 10 VEREF+ (in) "Input for an external reference voltage", 11 VREF-/VEREF-, 12 P1.0/TACLK/CAOUT (io), 13 P1.1/TA0 (io), 14 P1.2/TA1 (io), 15 P1.3/TA2 (io), 16 P1.4/SMCLK (io), 17 P1.5/TA0 (io), 18 P1.6/TA1 (io), 19 P1.7/TA2 (io), 20 P2.0/ACLK/CA2 (io), 21 P2.1/TAINCLK/CA3 (io), 22 P2.2/CAOUT/TA0/CA4 (io), 23 P2.3/CA0/TA1 (io), 24 P2.4/CA1/TA2 (io), 25 P2.5/ROSC/CA5 (io), 26 P2.6/ADC12CLK/CA6 (io), 27 P2.7/TA0/CA7 (io), 28 P3.0/UCB0STE/UCA0CLK (io), 29 P3.1/UCB0SIMO/UCB0SDA (io), 30 P3.2/UCB0SOMI/UCB0SCL (io), 31 P3.3/UCB0CLK/UCA0STE (io), 32 P3.4/UCA0TXD/UCA0SIMO (io), 33 P3.5/UCA0RXD/UCA0SOMI (io), 34 P3.6/UCA1TXD/UCA1SIMO (io), 35 P3.7/UCA1RXD/UCA1SOMI (io), 36 P4.0/TB0 (io), 37 P4.1/TB1 (io), 38 P4.2/TB2 (io), 39 P4.3/TB3 (io), 40 P4.4/TB4 (io), 41 P4.5/TB5 (io), 42 P4.6/TB6 (io), 43 P4.7/TBCLK (io), 44 P5.0/UCB1STE/UCA1CLK (io), 45 P5.1/UCB1SIMO/UCB1SDA (io), 46 P5.2/UCB1SOMI/UCB1SCL (io), 47 P5.3/UCB1CLK/UCA1STE (io), 48 P5.4/MCLK (io), 49 P5.5/SMCLK (io), 50 P5.6/ACLK (io), 51 P5.7/TBOUTH/SVSOUT (io), 52 XT2OUT "Output terminal of crystal oscillator XT2", 53 XT2IN "Input port for crystal oscillator XT2", 54 TDO/TDI (io), 55 TDI/TCLK (in), 56 TMS (in) "Test mode select. TMS is used as an input port for device programming and test.", 57 TCK (in) "Test clock (JTAG). TCK is the clock input port for device programming test and bootstrap loader start", 58 ~{RST}/NMI (in), 59 P6.0/A0 (io), 60 P6.1/A1 (io), 61 P6.2/A2 (io), 62 AVSS (power) "Analog supply voltage, negative terminal. Supplies only the analog portion of ADC12 and DAC12.", 63 DVSS (power) "Digital supply voltage, negative terminal. Supplies all digital parts.", 64 AVCC (power) "Analog supply voltage, positive terminal. Supplies only the analog portion of ADC12 and DAC12."